# Altium footprint library Jump_254.PcbLib: 184 footprints (part 10 of 12)
Each footprint in its own frame and in the unit in brackets; x right, y up, seen from the top. Pads: shape width x height; smd on the part's side, far side on the other; paste and mask are expansions set on the pad; w line width, h text height; cw(c..) or ccw(c..) is an arc to the next point about the centre after c.
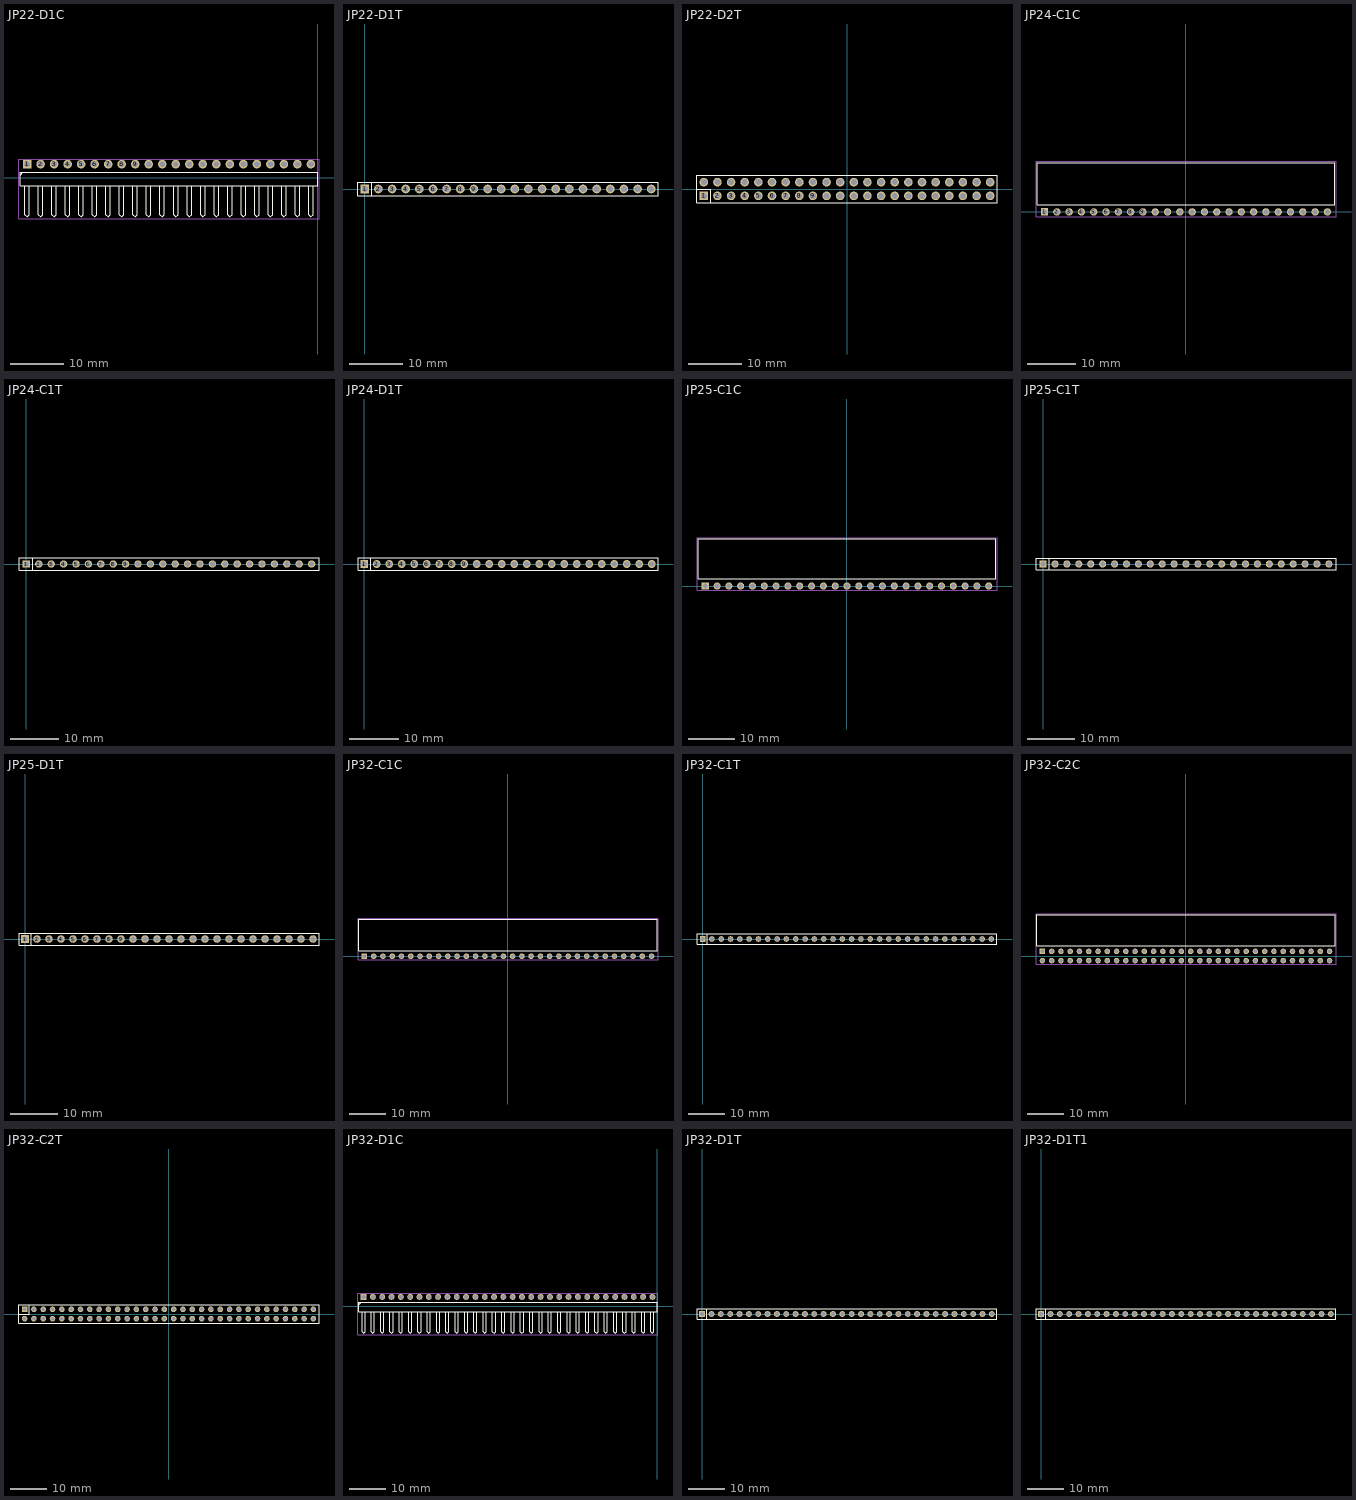
[diagram p9: the footprints below, top view; thin cyan lines are the x and y axes]

## JP22-D1C [mm] "22 pins, 1 row, right angled, gold plating"
height 2.54
pads (22):
  rect 1.6x1.6 hole 1.1: 1(-54.61,2.54)
  round 1.6 hole 1.1: 2(-52.07,2.54) 3(-49.53,2.54) 4(-46.99,2.54) 5(-44.45,2.54) 6(-41.91,2.54) 7(-39.37,2.54) 8(-36.83,2.54) 9(-34.29,2.54) 10(-31.75,2.54) 11(-29.21,2.54) 12(-26.67,2.54) 13(-24.13,2.54) 14(-21.59,2.54) 15(-19.05,2.54) 16(-16.51,2.54) 17(-13.97,2.54) 18(-11.43,2.54) 19(-8.89,2.54) 20(-6.35,2.54) 21(-3.81,2.54) 22(-1.27,2.54)
Top Overlay:
  lines w0.2: -55.838,0.574 -55.414,0.998 ; -55.033,-1.525 -55.033,-6.919 -54.61,-7.342 -54.187,-6.919 -54.187,-1.5 ; -52.493,-1.525 -52.493,-6.919 -52.07,-7.342 -51.647,-6.919 -51.647,-1.525 ; -49.953,-1.525 -49.953,-6.919 -49.53,-7.342 -49.107,-6.919 -49.107,-1.5 ; -47.413,-1.525 -47.413,-6.919 -46.99,-7.342 -46.567,-6.919 -46.567,-1.525 ; -44.873,-1.525 -44.873,-6.919 -44.45,-7.342 -44.027,-6.919 -44.027,-1.5 ; -42.333,-1.525 -42.333,-6.919 -41.91,-7.342 -41.487,-6.919 -41.487,-1.525 ; -39.793,-1.525 -39.793,-6.919 -39.37,-7.342 -38.947,-6.919 -38.947,-1.5 ; -37.253,-1.525 -37.253,-6.919 -36.83,-7.342 -36.407,-6.919 -36.407,-1.525 ; -34.713,-1.525 -34.713,-6.919 -34.29,-7.342 -33.867,-6.919 -33.867,-1.5 ; -32.173,-1.525 -32.173,-6.919 -31.75,-7.342 -31.327,-6.919 -31.327,-1.525 ; -29.633,-1.525 -29.633,-6.919 -29.21,-7.342 -28.787,-6.919 -28.787,-1.5 ; -27.093,-1.525 -27.093,-6.919 -26.67,-7.342 -26.247,-6.919 -26.247,-1.525 ; -24.553,-1.525 -24.553,-6.919 -24.13,-7.342 -23.707,-6.919 -23.707,-1.5 ; -22.013,-1.525 -22.013,-6.919 -21.59,-7.342 -21.167,-6.919 -21.167,-1.525 ; -19.473,-1.525 -19.473,-6.919 -19.05,-7.342 -18.627,-6.919 -18.627,-1.5 ; -16.933,-1.525 -16.933,-6.919 -16.51,-7.342 -16.087,-6.919 -16.087,-1.525 ; -14.393,-1.525 -14.393,-6.919 -13.97,-7.342 -13.547,-6.919 -13.547,-1.5 ; -11.853,-1.525 -11.853,-6.919 -11.43,-7.342 -11.007,-6.919 -11.007,-1.525 ; -9.313,-1.525 -9.313,-6.919 -8.89,-7.342 -8.467,-6.919 -8.467,-1.5 ; -6.773,-1.525 -6.773,-6.919 -6.35,-7.342 -5.927,-6.919 -5.927,-1.525 ; -4.233,-1.525 -4.233,-6.919 -3.81,-7.342 -3.387,-6.919 -3.387,-1.5 ; -1.693,-1.525 -1.693,-6.919 -1.27,-7.342 -0.847,-6.919 -0.847,-1.525 ; -55.88,-1.5 0,-1.5 0,1.04 -55.88,1.04 -55.88,-1.5
Mechanical 15:
  lines w0.1: -56.13,-7.75 0.25,-7.75 0.25,3.5 -56.13,3.5 -56.13,-7.75
3D body "61302211021.stp": height 2.55, standoff -2.99, extent -55.88,-7.524 0,2.836

## JP22-D1T [mm] "22 pins, 1 row, straight, gold plating"
height 8.54
pads (22):
  rect 1.6x1.6 hole 1.1: 1(0,0)
  round 1.6 hole 1.1: 2(2.54,0) 3(5.08,0) 4(7.62,0) 5(10.16,0) 6(12.7,0) 7(15.24,0) 8(17.78,0) 9(20.32,0) 10(22.86,0) 11(25.4,0) 12(27.94,0) 13(30.48,0) 14(33.02,0) 15(35.56,0) 16(38.1,0) 17(40.64,0) 18(43.18,0) 19(45.72,0) 20(48.26,0) 21(50.8,0) 22(53.34,0)
Top Overlay:
  lines w0.2: 1.27,-1.27 1.27,1.27 ; -1.27,-1.27 -1.27,1.27 0.635,1.27 54.61,1.27 54.61,-1.27 -1.27,-1.27
3D body "61302211121.stp": height 8.54, standoff -3, extent -1.27,-1.27 54.61,1.27

## JP22-D2T [mm] "44 pins, dual pin, straight, gold plating"
height 8.54
pads (44):
  rect 1.6x1.6 hole 1.1: 1(-26.67,-1.27)
  round 1.6 hole 1.1: 2(-24.13,-1.27) 3(-21.59,-1.27) 4(-19.05,-1.27) 5(-16.51,-1.27) 6(-13.97,-1.27) 7(-11.43,-1.27) 8(-8.89,-1.27) 9(-6.35,-1.27) 10(-3.81,-1.27) 11(-1.27,-1.27) 12(1.27,-1.27) 13(3.81,-1.27) 14(6.35,-1.27) 15(8.89,-1.27) 16(11.43,-1.27) 17(13.97,-1.27) 18(16.51,-1.27) 19(19.05,-1.27) 20(21.59,-1.27) 21(24.13,-1.27) 22(26.67,-1.27) 23(26.67,1.27) 24(24.13,1.27) 25(21.59,1.27) 26(19.05,1.27) 27(16.51,1.27) 28(13.97,1.27) 29(11.43,1.27) 30(8.89,1.27) 31(6.35,1.27) 32(3.81,1.27) 33(1.27,1.27) 34(-1.27,1.27) 35(-3.81,1.27) 36(-6.35,1.27) 37(-8.89,1.27) 38(-11.43,1.27) 39(-13.97,1.27) 40(-16.51,1.27) 41(-19.05,1.27) 42(-21.59,1.27) 43(-24.13,1.27) 44(-26.67,1.27)
Top Overlay:
  lines w0.2: -27.94,0 -25.4,0 -25.4,-2.54 ; -27.94,-2.54 -27.94,2.54 27.94,2.54 27.94,-2.54 -27.94,-2.54
3D body "61304421121.stp": height 8.55, standoff -2.99, extent -27.94,-2.54 27.94,2.54

## JP24-C1C [mm] "24p 1 row Right angle"
height 2.5
pads (24):
  rect 1.52x1.52 hole 1.02: 1(-29.21,0)
  round 1.52 hole 1.02: 2(-26.67,0) 3(-24.13,0) 4(-21.59,0) 5(-19.05,0) 6(-16.51,0) 7(-13.97,0) 8(-11.43,0) 9(-8.89,0) 10(-6.35,0) 11(-3.81,0) 12(-1.27,0) 13(1.27,0) 14(3.81,0) 15(6.35,0) 16(8.89,0) 17(11.43,0) 18(13.97,0) 19(16.51,0) 20(19.05,0) 21(21.59,0) 22(24.13,0) 23(26.67,0) 24(29.21,0)
Top Overlay:
  lines w0.2: -30.73,1.524 30.734,1.524 30.734,10.173 -30.73,10.173 -30.73,1.524
Mechanical 15:
  lines w0.1: -30.98,-0.96 30.984,-0.96 30.984,10.423 -30.98,10.423 -30.98,-0.96
3D body "613024143121.stp": height 2.51, standoff -3.08, extent -30.73,-0.208 30.73,10.092

## JP24-C1T [mm] "24 row, straight, gold plating"
height 8.5
pads (24):
  rect 1.52x1.52 hole 1.02: 1(0,0)
  round 1.52 hole 1.02: 2(2.54,0) 3(5.08,0) 4(7.62,0) 5(10.16,0) 6(12.7,0) 7(15.24,0) 8(17.78,0) 9(20.32,0) 10(22.86,0) 11(25.4,0) 12(27.94,0) 13(30.48,0) 14(33.02,0) 15(35.56,0) 16(38.1,0) 17(40.64,0) 18(43.18,0) 19(45.72,0) 20(48.26,0) 21(50.8,0) 22(53.34,0) 23(55.88,0) 24(58.42,0)
Top Overlay:
  lines w0.2: 1.27,-1.27 1.27,1.27 ; -1.52,-1.27 -1.52,1.27 0.635,1.27 59.94,1.27 59.94,-1.27 -1.52,-1.27
3D body "61302411821.stp": height 8.51, standoff -3.09, extent -1.52,-1.25 59.94,1.25

## JP24-D1T [mm] "24 pins, 1 row, straight, gold plating"
height 8.54
pads (24):
  rect 1.6x1.6 hole 1.1: 1(0,0)
  round 1.6 hole 1.1: 2(2.54,0) 3(5.08,0) 4(7.62,0) 5(10.16,0) 6(12.7,0) 7(15.24,0) 8(17.78,0) 9(20.32,0) 10(22.86,0) 11(25.4,0) 12(27.94,0) 13(30.48,0) 14(33.02,0) 15(35.56,0) 16(38.1,0) 17(40.64,0) 18(43.18,0) 19(45.72,0) 20(48.26,0) 21(50.8,0) 22(53.34,0) 23(55.88,0) 24(58.42,0)
Top Overlay:
  lines w0.2: 1.27,-1.27 1.27,1.27 ; -1.27,-1.27 -1.27,1.27 0.635,1.27 59.69,1.27 59.69,-1.27 -1.27,-1.27
3D body "61302411121.stp": height 8.54, standoff -3, extent -1.27,-1.27 59.69,1.27

## JP25-C1C [mm] "25p 1 row Right angle"
height 2.5
pads (25):
  rect 1.52x1.52 hole 1.02: 1(-30.48,0)
  round 1.52 hole 1.02: 2(-27.94,0) 3(-25.4,0) 4(-22.86,0) 5(-20.32,0) 6(-17.78,0) 7(-15.24,0) 8(-12.7,0) 9(-10.16,0) 10(-7.62,0) 11(-5.08,0) 12(-2.54,0) 13(0,0) 14(2.54,0) 15(5.08,0) 16(7.62,0) 17(10.16,0) 18(12.7,0) 19(15.24,0) 20(17.78,0) 21(20.32,0) 22(22.86,0) 23(25.4,0) 24(27.94,0) 25(30.48,0)
Top Overlay:
  lines w0.2: -32.004,1.524 -32.004,10.173 32.004,10.173 32.004,1.524 -32.004,1.524
Mechanical 15:
  lines w0.1: -32.25,-0.96 32.254,-0.96 32.254,10.423 -32.25,10.423 -32.25,-0.96
3D body "613025143121.stp": height 2.51, standoff -3.08, extent -32,-0.208 32,10.092

## JP25-C1T [mm] "25 row, straight, gold plating"
height 8.5
pads (25):
  rect 1.52x1.52 hole 1.02: 1(0,0)
  round 1.52 hole 1.02: 2(2.54,0) 3(5.08,0) 4(7.62,0) 5(10.16,0) 6(12.7,0) 7(15.24,0) 8(17.78,0) 9(20.32,0) 10(22.86,0) 11(25.4,0) 12(27.94,0) 13(30.48,0) 14(33.02,0) 15(35.56,0) 16(38.1,0) 17(40.64,0) 18(43.18,0) 19(45.72,0) 20(48.26,0) 21(50.8,0) 22(53.34,0) 23(55.88,0) 24(58.42,0) 25(60.96,0)
Top Overlay:
  lines w0.2: 1.27,-1.27 1.27,1.27 ; -1.52,-1.27 62.48,-1.27 62.48,1.27 0.635,1.27 -1.52,1.27 -1.52,-1.27
3D body "61302511821.stp": height 8.51, standoff -3.09, extent -1.52,-1.25 62.48,1.25

## JP25-D1T [mm] "25 pins, 1 row, straight, gold plating"
height 8.54
pads (25):
  rect 1.6x1.6 hole 1.1: 1(0,0)
  round 1.6 hole 1.1: 2(2.54,0) 3(5.08,0) 4(7.62,0) 5(10.16,0) 6(12.7,0) 7(15.24,0) 8(17.78,0) 9(20.32,0) 10(22.86,0) 11(25.4,0) 12(27.94,0) 13(30.48,0) 14(33.02,0) 15(35.56,0) 16(38.1,0) 17(40.64,0) 18(43.18,0) 19(45.72,0) 20(48.26,0) 21(50.8,0) 22(53.34,0) 23(55.88,0) 24(58.42,0) 25(60.96,0)
Top Overlay:
  lines w0.2: 1.27,-1.27 1.27,1.27 ; -1.27,-1.27 62.23,-1.27 62.23,1.27 0.635,1.27 -1.27,1.27 -1.27,-1.27
3D body "61302511121.stp": height 8.54, standoff -3, extent -1.27,-1.27 62.23,1.27

## JP32-C1C [mm] "32p 1 row Right angle"
height 2.5
pads (32):
  rect 1.52x1.52 hole 1.02: 1(-39.37,0)
  round 1.52 hole 1.02: 2(-36.83,0) 3(-34.29,0) 4(-31.75,0) 5(-29.21,0) 6(-26.67,0) 7(-24.13,0) 8(-21.59,0) 9(-19.05,0) 10(-16.51,0) 11(-13.97,0) 12(-11.43,0) 13(-8.89,0) 14(-6.35,0) 15(-3.81,0) 16(-1.27,0) 17(1.27,0) 18(3.81,0) 19(6.35,0) 20(8.89,0) 21(11.43,0) 22(13.97,0) 23(16.51,0) 24(19.05,0) 25(21.59,0) 26(24.13,0) 27(26.67,0) 28(29.21,0) 29(31.75,0) 30(34.29,0) 31(36.83,0) 32(39.37,0)
Top Overlay:
  lines w0.2: -40.894,1.524 -40.894,10.173 40.894,10.173 40.894,1.524 -40.894,1.524
Mechanical 15:
  lines w0.1: -41.14,-0.96 -41.14,10.423 41.144,10.423 41.144,-0.96 -41.14,-0.96
3D body "613032143121.stp": height 2.51, standoff -3.08, extent -40.89,-0.208 40.89,10.092

## JP32-C1T [mm] "32 row, straight, gold plating"
height 8.5
pads (32):
  rect 1.52x1.52 hole 1.02: 1(0,0)
  round 1.52 hole 1.02: 2(2.54,0) 3(5.08,0) 4(7.62,0) 5(10.16,0) 6(12.7,0) 7(15.24,0) 8(17.78,0) 9(20.32,0) 10(22.86,0) 11(25.4,0) 12(27.94,0) 13(30.48,0) 14(33.02,0) 15(35.56,0) 16(38.1,0) 17(40.64,0) 18(43.18,0) 19(45.72,0) 20(48.26,0) 21(50.8,0) 22(53.34,0) 23(55.88,0) 24(58.42,0) 25(60.96,0) 26(63.5,0) 27(66.04,0) 28(68.58,0) 29(71.12,0) 30(73.66,0) 31(76.2,0) 32(78.74,0)
Top Overlay:
  lines w0.2: 1.27,-1.4 1.27,1.4 ; -1.52,-1.4 80.26,-1.4 80.26,1.4 -1.52,1.4 -1.52,-1.4
3D body "61303211821.stp": height 8.51, standoff -3.09, extent -1.52,-1.25 80.26,1.25

## JP32-C2C [mm] "64p 2 rows Right angle"
height 5.08
pads (64):
  rect 1.52x1.52 hole 1.02: 1(-39.37,1.27)
  round 1.52 hole 1.02: 2(-36.83,1.27) 3(-34.29,1.27) 4(-31.75,1.27) 5(-29.21,1.27) 6(-26.67,1.27) 7(-24.13,1.27) 8(-21.59,1.27) 9(-19.05,1.27) 10(-16.51,1.27) 11(-13.97,1.27) 12(-11.43,1.27) 13(-8.89,1.27) 14(-6.35,1.27) 15(-3.81,1.27) 16(-1.27,1.27) 17(1.27,1.27) 18(3.81,1.27) 19(6.35,1.27) 20(8.89,1.27) 21(11.43,1.27) 22(13.97,1.27) 23(16.51,1.27) 24(19.05,1.27) 25(21.59,1.27) 26(24.13,1.27) 27(26.67,1.27) 28(29.21,1.27) 29(31.75,1.27) 30(34.29,1.27) 31(36.83,1.27) 32(39.37,1.27) 33(39.37,-1.27) 34(36.83,-1.27) 35(34.29,-1.27) 36(31.75,-1.27) 37(29.21,-1.27) 38(26.67,-1.27) 39(24.13,-1.27) 40(21.59,-1.27) 41(19.05,-1.27) 42(16.51,-1.27) 43(13.97,-1.27) 44(11.43,-1.27) 45(8.89,-1.27) 46(6.35,-1.27) 47(3.81,-1.27) 48(1.27,-1.27) 49(-1.27,-1.27) 50(-3.81,-1.27) 51(-6.35,-1.27) 52(-8.89,-1.27) 53(-11.43,-1.27) 54(-13.97,-1.27) 55(-16.51,-1.27) 56(-19.05,-1.27) 57(-21.59,-1.27) 58(-24.13,-1.27) 59(-26.67,-1.27) 60(-29.21,-1.27) 61(-31.75,-1.27) 62(-34.29,-1.27) 63(-36.83,-1.27) 64(-39.37,-1.27)
Top Overlay:
  lines w0.2: -40.894,2.794 -40.894,11.316 40.894,11.316 40.894,2.794 -40.894,2.794
Mechanical 15:
  lines w0.1: -41.14,-2.23 -41.14,11.566 41.144,11.566 41.144,-2.23 -41.14,-2.23
3D body "613064243121.stp": height 5.09, standoff -4.46, extent -40.89,-1.478 40.89,11.362

## JP32-C2T [mm] "64 pins, dual row, straight, gold plating"
height 8.5
pads (64):
  rect 1.52x1.52 hole 1.02: 1(-39.37,1.27)
  round 1.52 hole 1.02: 2(-36.83,1.27) 3(-34.29,1.27) 4(-31.75,1.27) 5(-29.21,1.27) 6(-26.67,1.27) 7(-24.13,1.27) 8(-21.59,1.27) 9(-19.05,1.27) 10(-16.51,1.27) 11(-13.97,1.27) 12(-11.43,1.27) 13(-8.89,1.27) 14(-6.35,1.27) 15(-3.81,1.27) 16(-1.27,1.27) 17(1.27,1.27) 18(3.81,1.27) 19(6.35,1.27) 20(8.89,1.27) 21(11.43,1.27) 22(13.97,1.27) 23(16.51,1.27) 24(19.05,1.27) 25(21.59,1.27) 26(24.13,1.27) 27(26.67,1.27) 28(29.21,1.27) 29(31.75,1.27) 30(34.29,1.27) 31(36.83,1.27) 32(39.37,1.27) 33(39.37,-1.27) 34(36.83,-1.27) 35(34.29,-1.27) 36(31.75,-1.27) 37(29.21,-1.27) 38(26.67,-1.27) 39(24.13,-1.27) 40(21.59,-1.27) 41(19.05,-1.27) 42(16.51,-1.27) 43(13.97,-1.27) 44(11.43,-1.27) 45(8.89,-1.27) 46(6.35,-1.27) 47(3.81,-1.27) 48(1.27,-1.27) 49(-1.27,-1.27) 50(-3.81,-1.27) 51(-6.35,-1.27) 52(-8.89,-1.27) 53(-11.43,-1.27) 54(-13.97,-1.27) 55(-16.51,-1.27) 56(-19.05,-1.27) 57(-21.59,-1.27) 58(-24.13,-1.27) 59(-26.67,-1.27) 60(-29.21,-1.27) 61(-31.75,-1.27) 62(-34.29,-1.27) 63(-36.83,-1.27) 64(-39.37,-1.27)
Top Overlay:
  lines w0.2: -40.89,0 -38.1,0 -38.1,2.54 ; -40.89,-2.54 -35.56,-2.54 40.89,-2.54 40.89,2.54 -40.89,2.54 -40.89,-2.54
3D body "61306421821.stp": height 8.51, standoff -3.09, extent -40.89,-2.54 40.89,2.54

## JP32-D1C [mm] "32 pins, 1 row, right angled, gold plating"
height 2.54
pads (32):
  rect 1.6x1.6 hole 1.1: 1(-80.01,2.54)
  round 1.6 hole 1.1: 2(-77.47,2.54) 3(-74.93,2.54) 4(-72.39,2.54) 5(-69.85,2.54) 6(-67.31,2.54) 7(-64.77,2.54) 8(-62.23,2.54) 9(-59.69,2.54) 10(-57.15,2.54) 11(-54.61,2.54) 12(-52.07,2.54) 13(-49.53,2.54) 14(-46.99,2.54) 15(-44.45,2.54) 16(-41.91,2.54) 17(-39.37,2.54) 18(-36.83,2.54) 19(-34.29,2.54) 20(-31.75,2.54) 21(-29.21,2.54) 22(-26.67,2.54) 23(-24.13,2.54) 24(-21.59,2.54) 25(-19.05,2.54) 26(-16.51,2.54) 27(-13.97,2.54) 28(-11.43,2.54) 29(-8.89,2.54) 30(-6.35,2.54) 31(-3.81,2.54) 32(-1.27,2.54)
Top Overlay:
  lines w0.2: -81.238,0.574 -80.814,0.998 ; -80.433,-1.525 -80.433,-6.919 -80.01,-7.342 -79.587,-6.919 -79.587,-1.5 ; -77.893,-1.525 -77.893,-6.919 -77.47,-7.342 -77.047,-6.919 -77.047,-1.525 ; -75.353,-1.525 -75.353,-6.919 -74.93,-7.342 -74.507,-6.919 -74.507,-1.5 ; -72.813,-1.525 -72.813,-6.919 -72.39,-7.342 -71.967,-6.919 -71.967,-1.525 ; -70.273,-1.525 -70.273,-6.919 -69.85,-7.342 -69.427,-6.919 -69.427,-1.5 ; -67.733,-1.525 -67.733,-6.919 -67.31,-7.342 -66.887,-6.919 -66.887,-1.525 ; -65.193,-1.525 -65.193,-6.919 -64.77,-7.342 -64.347,-6.919 -64.347,-1.5 ; -62.653,-1.525 -62.653,-6.919 -62.23,-7.342 -61.807,-6.919 -61.807,-1.525 ; -60.113,-1.525 -60.113,-6.919 -59.69,-7.342 -59.267,-6.919 -59.267,-1.5 ; -57.573,-1.525 -57.573,-6.919 -57.15,-7.342 -56.727,-6.919 -56.727,-1.525 ; -55.033,-1.525 -55.033,-6.919 -54.61,-7.342 -54.187,-6.919 -54.187,-1.5 ; -52.493,-1.525 -52.493,-6.919 -52.07,-7.342 -51.647,-6.919 -51.647,-1.525 ; -49.953,-1.525 -49.953,-6.919 -49.53,-7.342 -49.107,-6.919 -49.107,-1.5 ; -47.413,-1.525 -47.413,-6.919 -46.99,-7.342 -46.567,-6.919 -46.567,-1.525 ; -44.873,-1.525 -44.873,-6.919 -44.45,-7.342 -44.027,-6.919 -44.027,-1.5 ; -42.333,-1.525 -42.333,-6.919 -41.91,-7.342 -41.487,-6.919 -41.487,-1.525 ; -39.793,-1.525 -39.793,-6.919 -39.37,-7.342 -38.947,-6.919 -38.947,-1.5 ; -37.253,-1.525 -37.253,-6.919 -36.83,-7.342 -36.407,-6.919 -36.407,-1.525 ; -34.713,-1.525 -34.713,-6.919 -34.29,-7.342 -33.867,-6.919 -33.867,-1.5 ; -32.173,-1.525 -32.173,-6.919 -31.75,-7.342 -31.327,-6.919 -31.327,-1.525 ; -29.633,-1.525 -29.633,-6.919 -29.21,-7.342 -28.787,-6.919 -28.787,-1.5 ; -27.093,-1.525 -27.093,-6.919 -26.67,-7.342 -26.247,-6.919 -26.247,-1.525 ; -24.553,-1.525 -24.553,-6.919 -24.13,-7.342 -23.707,-6.919 -23.707,-1.5 ; -22.013,-1.525 -22.013,-6.919 -21.59,-7.342 -21.167,-6.919 -21.167,-1.525 ; -19.473,-1.525 -19.473,-6.919 -19.05,-7.342 -18.627,-6.919 -18.627,-1.5 ; -16.933,-1.525 -16.933,-6.919 -16.51,-7.342 -16.087,-6.919 -16.087,-1.525 ; -14.393,-1.525 -14.393,-6.919 -13.97,-7.342 -13.547,-6.919 -13.547,-1.5 ; -11.853,-1.525 -11.853,-6.919 -11.43,-7.342 -11.007,-6.919 -11.007,-1.525 ; -9.313,-1.525 -9.313,-6.919 -8.89,-7.342 -8.467,-6.919 -8.467,-1.5 ; -6.773,-1.525 -6.773,-6.919 -6.35,-7.342 -5.927,-6.919 -5.927,-1.525 ; -4.233,-1.525 -4.233,-6.919 -3.81,-7.342 -3.387,-6.919 -3.387,-1.5 ; -1.693,-1.525 -1.693,-6.919 -1.27,-7.342 -0.847,-6.919 -0.847,-1.525 ; -81.28,-1.5 -81.28,1.04 0,1.04 0,-1.5 -81.28,-1.5
Mechanical 15:
  lines w0.1: -81.53,-7.75 0.25,-7.75 0.25,3.5 -81.53,3.5 -81.53,-7.75
3D body "61303211021.stp": height 2.55, standoff -2.99, extent -81.28,-7.524 0,2.836

## JP32-D1T [mm] "32 pins, 1 row, straight, gold plating"
height 8.54
pads (32):
  rect 1.6x1.6 hole 1.1: 1(0,0)
  round 1.6 hole 1.1: 2(2.54,0) 3(5.08,0) 4(7.62,0) 5(10.16,0) 6(12.7,0) 7(15.24,0) 8(17.78,0) 9(20.32,0) 10(22.86,0) 11(25.4,0) 12(27.94,0) 13(30.48,0) 14(33.02,0) 15(35.56,0) 16(38.1,0) 17(40.64,0) 18(43.18,0) 19(45.72,0) 20(48.26,0) 21(50.8,0) 22(53.34,0) 23(55.88,0) 24(58.42,0) 25(60.96,0) 26(63.5,0) 27(66.04,0) 28(68.58,0) 29(71.12,0) 30(73.66,0) 31(76.2,0) 32(78.74,0)
Top Overlay:
  lines w0.2: 1.27,-1.4 1.27,1.4 ; -1.4,-1.4 80.14,-1.4 80.14,1.4 -1.4,1.4 -1.4,-1.4
3D body "61303211121.stp": height 8.54, standoff -3, extent -1.27,-1.27 80.01,1.27

## JP32-D1T1 [mm] "32 pins, 1 row, gold plating"
height 18.24
pads (32):
  rect 1.6x1.6 hole 1.1: 1(0,0)
  round 1.6 hole 1.1: 2(2.54,0) 3(5.08,0) 4(7.62,0) 5(10.16,0) 6(12.7,0) 7(15.24,0) 8(17.78,0) 9(20.32,0) 10(22.86,0) 11(25.4,0) 12(27.94,0) 13(30.48,0) 14(33.02,0) 15(35.56,0) 16(38.1,0) 17(40.64,0) 18(43.18,0) 19(45.72,0) 20(48.26,0) 21(50.8,0) 22(53.34,0) 23(55.88,0) 24(58.42,0) 25(60.96,0) 26(63.5,0) 27(66.04,0) 28(68.58,0) 29(71.12,0) 30(73.66,0) 31(76.2,0) 32(78.74,0)
Top Overlay:
  lines w0.2: 1.27,-1.4 1.27,1.4 ; -1.4,-1.4 80.14,-1.4 80.14,1.4 -1.4,1.4 -1.4,-1.4
3D body "61303211221.stp": height 18.21, standoff -3.03, extent -1.27,-1.27 80.01,1.27